# EAGLE library part 8PH (library LEMS)
8 Pin Header Lock
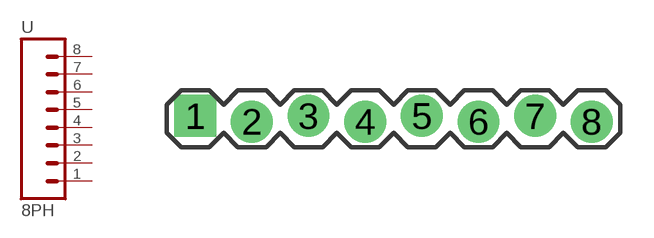
[diagram p7: symbol with the pads of 8PH; footprint 8PH]

Designator prefix -

## 8PHN  [8PH]
1  1  pas
2  2  pas
3  3  pas
4  4  pas
5  5  pas
6  6  pas
7  7  pas
8  8  pas

## Footprint 8PH (pad centres in mm)
8 Pin Header Lock
drill 1.016 pad 1.88 square: 1 -8.89,0.127
drill 1.016 pad 1.88: 2 -6.35,-0.127; 3 -3.81,0.127; 4 -1.27,-0.127; 5 1.27,0.127; 6 3.81,-0.127; 7 6.35,0.127; 8 8.89,-0.127